# Altium footprint library Tarefinha.PcbLib: 11 footprints
Each footprint in its own frame and in the unit in brackets; x right, y up, seen from the top. Pads: shape width x height; smd on the part's side, far side on the other; paste and mask are expansions set on the pad; w line width, h text height; cw(c..) or ccw(c..) is an arc to the next point about the centre after c.
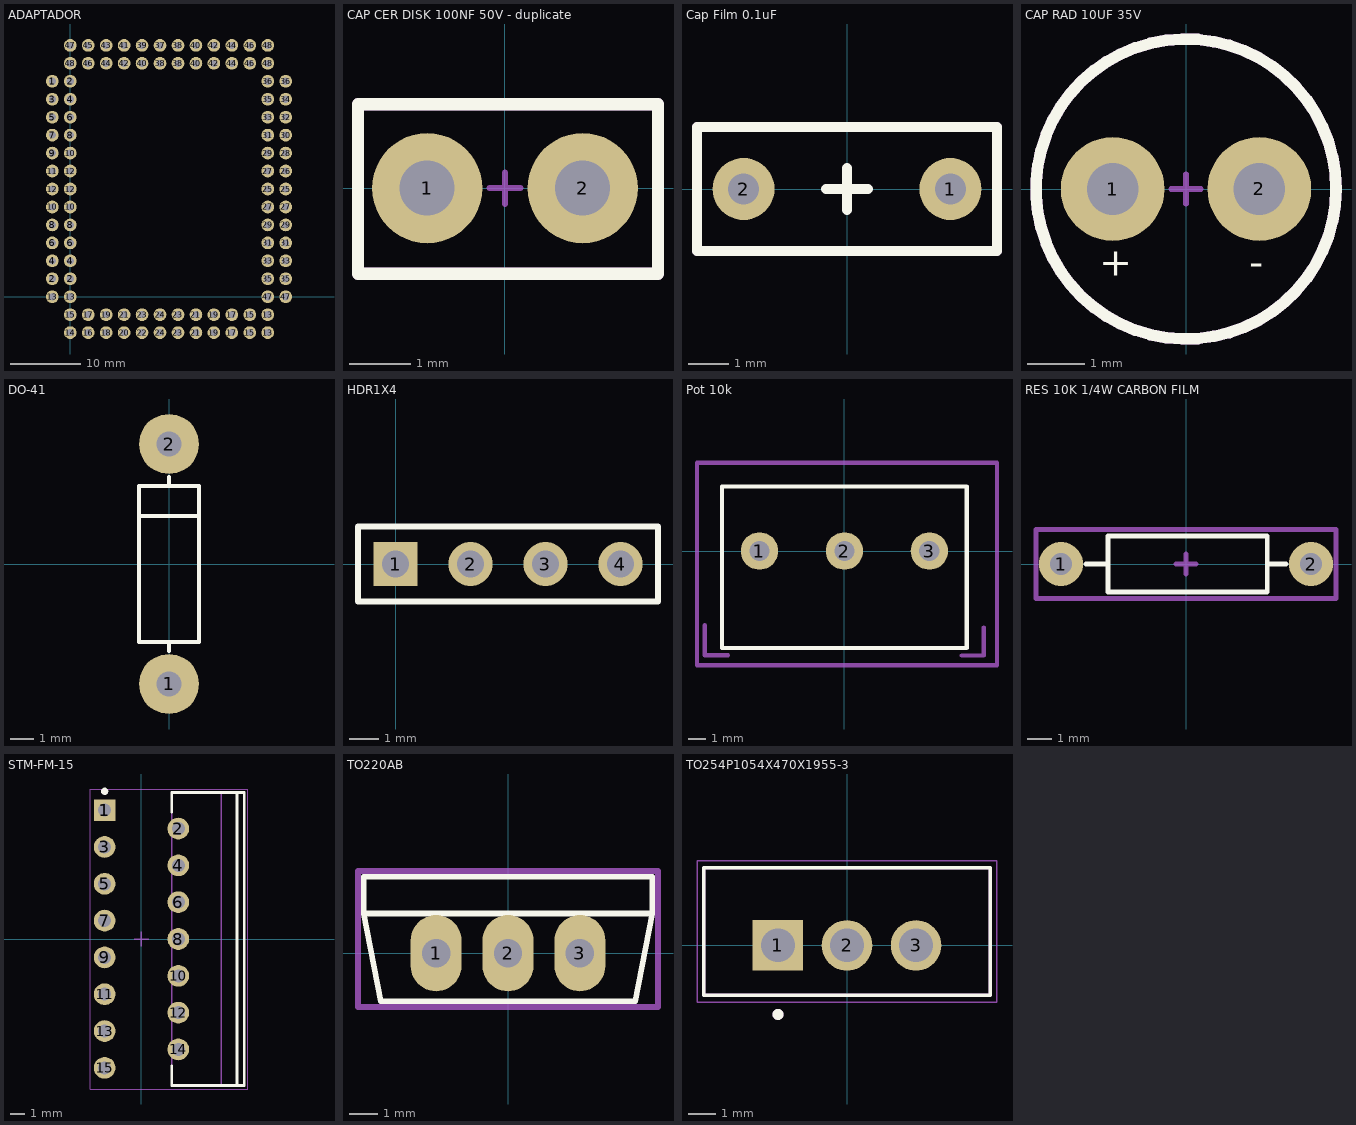
[diagram p0: the footprints below, top view; thin cyan lines are the x and y axes]

## ADAPTADOR [mm] "SMD"
pads (100):
  round 1.8 hole 1: 1(-2.54,30.48) 2(-2.54,2.54) 2(0,2.54) 2(0,30.48) 3(-2.54,27.94) 4(-2.54,5.08) 4(0,5.08) 4(0,27.94) 5(-2.54,25.4) 6(-2.54,7.62) 6(0,7.62) 6(0,25.4) 7(-2.54,22.86) 8(-2.54,10.16) 8(0,10.16) 8(0,22.86) 9(-2.54,20.32) 10(-2.54,12.7) 10(0,12.7) 10(0,20.32) 11(-2.54,17.78) 12(-2.54,15.24) 12(0,15.24) 12(0,17.78) 13(-2.54,0) 13(0,0) 13(27.94,-5.08) 13(27.94,-2.54) 14(0,-5.08) 15(0,-2.54) 15(25.4,-5.08) 15(25.4,-2.54) 16(2.54,-5.08) 17(2.54,-2.54) 17(22.86,-5.08) 17(22.86,-2.54) 18(5.08,-5.08) 19(5.08,-2.54) 19(20.32,-5.08) 19(20.32,-2.54) 20(7.62,-5.08) 21(7.62,-2.54) 21(17.78,-5.08) 21(17.78,-2.54) 22(10.16,-5.08) 23(10.16,-2.54) 23(15.24,-5.08) 23(15.24,-2.54) 24(12.7,-5.08) 24(12.7,-2.54) 25(27.94,15.24) 25(30.48,15.24) 26(30.48,17.78) 27(27.94,12.7) 27(27.94,17.78) 27(30.48,12.7) 28(30.48,20.32) 29(27.94,10.16) 29(27.94,20.32) 29(30.48,10.16) 30(30.48,22.86) 31(27.94,7.62) 31(27.94,22.86) 31(30.48,7.62) 32(30.48,25.4) 33(27.94,5.08) 33(27.94,25.4) 33(30.48,5.08) 34(30.48,27.94) 35(27.94,2.54) 35(27.94,27.94) 35(30.48,2.54) 36(27.94,30.48) 36(30.48,30.48) 37(12.7,35.56) 38(12.7,33.02) 38(15.24,33.02) 38(15.24,35.56) 39(10.16,35.56) 40(10.16,33.02) 40(17.78,33.02) 40(17.78,35.56) 41(7.62,35.56) 42(7.62,33.02) 42(20.32,33.02) 42(20.32,35.56) 43(5.08,35.56) 44(5.08,33.02) 44(22.86,33.02) 44(22.86,35.56) 45(2.54,35.56) 46(2.54,33.02) 46(25.4,33.02) 46(25.4,35.56) 47(0,35.56) 47(27.94,0) 47(30.48,0) 48(0,33.02) 48(27.94,33.02) 48(27.94,35.56)
3D body "adap.STEP": height 8.17, standoff -3.77, extent -4.239,-8.06 31.761,37.94

## CAP CER DISK 100NF 50V - duplicate [mm] "Connector; Header; 5 Position"
pads (2):
  round 1.8 hole 0.9: 1(-1.27,0) 2(1.27,0)
Top Overlay:
  lines w0.2: -2.4,-1.397 2.5,-1.397 2.5,1.37 -2.4,1.37 -2.4,-1.397
Mechanical 15:
  lines w0.1: -0.254,0 0.254,0 ; 0,-0.254 0,0.254
  lines w0.2: -2.4,-1.397 -2.4,1.37 2.5,1.37 2.5,-1.397 -2.4,-1.397
Mechanical 29:
  text "1" at -0.4,-1.1 h0.5
  text ".Designator" at -2.2,1.8 h0.5
3D body "CAP_Ceramic.STEP": height 6.1, standoff -3.93, extent -2.28,-1.25 2.42,1.25

## Cap Film 0.1uF [mil] "Cap Film 0.1uF"
height 255.91
pads (2):
  round 60 hole 30: 1(100,0) 2(-100,0)
Top Overlay:
  lines w10: 0,-20 0,20 ; -145,-60 -145,60 145,60 145,-60 -145,-60 ; -20,0 20,0 -20,0
Mechanical 15:
  lines w10: -145,-60 -145,60 145,60 145,-60 -145,-60
3D body "User Library-MKT_B32529.step": height 236.22, standoff -255.91, extent -143.7,-60 143.7,58.11

## CAP RAD 10UF 35V [mm]
pads (2):
  round 1.8 hole 0.9: 1(-1.27,0) 2(1.27,0)
Top Overlay:
  circle w0.2: c0,0 r2.6
  text "-" at 1.1,-1.5 h0.5
  text "+" at -1.5,-1.5 h0.5
Mechanical 15:
  circle w0.2: c0,0 r2.6
  lines w0.1: -0.254,0 0.254,0 ; 0,-0.254 0,0.254
Mechanical 29:
  text "-" at 1.1,-1.5 h0.5
  text "+" at -1.5,-1.5 h0.5
  text ".Designator" at -2.4,3 h0.5
3D body "CAP ELE PTH.STEP": height 12.2, standoff -1.7, extent -2.5,-2.5 2.5,2.5

## DO-41 [mil] "Diode, thru-hole"
height 106.3
pads (2):
  round 100 / inner round 0 / far side round 100 hole 42: 1(0,-200) 2(0,200)
Top Overlay:
  lines w6: -50,80 50,80 ; 0,-145 0,-130 ; 0,130 0,145 ; -50,-130 50,-130 50,130 -50,130 -50,-130
3D body "DIODE0_4-DEFAULT.STEP": height 100.5, standoff -100, extent -51,-215 50,215

## HDR1X4 [mm]
pads (4):
  rect 1.5x1.5 hole 0.9: 1(0,0)
  round 1.5 hole 0.9: 2(2.54,0) 3(5.08,0) 4(7.62,0)
Top Overlay:
  lines w0.2: -1.27,-1.27 -1.27,1.27 8.89,1.27 8.89,-1.27 -1.27,-1.27

## Pot 10k [mm]
pads (3):
  round 2.2 hole 1.2: 1(-5,0) 2(0,0) 3(5,0)
Top Overlay:
  lines w0.254: -7.2,-5.7 7.2,-5.7 7.2,3.8 -7.2,3.8 -7.2,-5.7
Mechanical 13:
  lines w0.254: -8.225,-4.375 -8.225,-6.125 -6.85,-6.125 ; 6.9,-6.15 8.2,-6.15 8.2,-4.5
Mechanical 15:
  lines w0.254: -8.675,-6.725 8.925,-6.725 8.975,-6.725 8.975,5.2 -8.675,5.2 -8.675,-6.725
3D body "Potentiometer10K.STEP": height 21.17, standoff -3.68, extent -8.145,-5.55 8.195,23.49

## RES 10K 1/4W CARBON FILM [mm]
pads (2):
  round 1.8 hole 0.9: 1(-5.08,0) 2(5.08,0)
Top Overlay:
  lines w0.2: -4.064,0 -3.175,0 ; 3.302,0 4.064,0 ; -3.175,-1.143 3.302,-1.143 3.302,1.143 -3.175,1.143 -3.175,-1.143
Mechanical 15:
  lines w0.2: -0.4,0 0.4,0 ; 0,-0.4 0,0.4 ; -6.096,-1.4 -6.096,1.4 6.096,1.4 6.096,-1.4 -6.096,-1.4
Mechanical 29:
  text ".Designator" at -5.9,1.8 h0.5
  text "1" at -3.937,-1.016 h0.5
3D body "RES 10K .25W CARBON FILM.STEP": height 3.27, standoff -1.27, extent -5.473,-1.27 5.474,1.27

## STM-FM-15 [mm] "FM, 15-Leads, Body 20.2x5mm, Pitch 1.27mm"
height 21
pads (15):
  rect 1.5x1.5 hole 0.9: 1(-2.54,8.89)
  round 1.5 hole 0.9: 2(2.54,7.62) 3(-2.54,6.35) 4(2.54,5.08) 5(-2.54,3.81) 6(2.54,2.54) 7(-2.54,1.27) 8(2.54,0) 9(-2.54,-1.27) 10(2.54,-2.54) 11(-2.54,-3.81) 12(2.54,-5.08) 13(-2.54,-6.35) 14(2.54,-7.62) 15(-2.54,-8.89)
Top Overlay:
  circle w0.25: c-2.54,10.19 r0.125
  lines w0.2: 2.09,-8.77 2.09,-10.1 7.09,-10.1 7.09,10.1 2.09,10.1 2.09,8.77 ; 6.59,-10.1 6.59,10.1
Mechanical 13:
  lines w0.1: 5.49,-10.1 5.49,10.1 ; 2.09,-10.1 7.09,-10.1 7.09,10.1 2.09,10.1 2.09,-10.1
Mechanical 15:
  lines w0.05: -3.54,-10.35 7.34,-10.35 7.34,10.35 -3.54,10.35 -3.54,-10.35
  lines w0.1: -0.5,0 0.5,0 ; 0,-0.5 0,0.5
3D body: height 21, standoff 20.08, extent 5.49,-9.8 7.09,9.8
3D body: height 18.57, standoff 18.2, extent 5.49,-9.8 7.09,-1.875
3D body: height 18.57, standoff 18.2, extent 5.49,1.875 7.09,9.8
3D body: height 18.2, standoff 17.83, extent 5.49,-9.8 7.09,-1.875
3D body: height 18.2, standoff 17.83, extent 5.49,1.875 7.09,9.8
3D body: height 18.92, standoff 18.57, extent 5.49,-9.8 7.09,-1.839
3D body: height 18.92, standoff 18.57, extent 5.49,1.839 7.09,9.8
3D body: height 17.84, standoff 17.48, extent 5.49,-9.8 7.09,-1.839
3D body: height 17.84, standoff 17.48, extent 5.49,1.839 7.09,9.8
3D body: height 19.25, standoff 18.92, extent 5.49,-9.8 7.09,-1.732
3D body: height 19.25, standoff 18.92, extent 5.49,1.732 7.09,9.8
3D body: height 17.49, standoff 17.16, extent 5.49,-9.8 7.09,-1.732
3D body: height 17.49, standoff 17.16, extent 5.49,1.732 7.09,9.8
3D body: height 19.53, standoff 19.24, extent 5.49,-9.8 7.09,-1.559
3D body: height 19.53, standoff 19.24, extent 5.49,1.559 7.09,9.8
3D body: height 17.16, standoff 16.87, extent 5.49,-9.8 7.09,-1.559
3D body: height 17.16, standoff 16.87, extent 5.49,1.559 7.09,9.8
3D body: height 19.76, standoff 19.53, extent 5.49,-9.8 7.09,-1.326
3D body: height 19.76, standoff 19.53, extent 5.49,1.326 7.09,9.8
3D body: height 16.88, standoff 16.64, extent 5.49,-9.8 7.09,-1.326
3D body: height 16.88, standoff 16.64, extent 5.49,1.326 7.09,9.8
3D body: height 19.94, standoff 19.76, extent 5.49,-9.8 7.09,-1.042
3D body: height 19.94, standoff 19.76, extent 5.49,1.042 7.09,9.8
3D body: height 16.65, standoff 16.47, extent 5.49,-9.8 7.09,-1.042
3D body: height 16.65, standoff 16.47, extent 5.49,1.042 7.09,9.8
3D body: height 20.04, standoff 19.93, extent 5.49,-9.8 7.09,-0.718
3D body: height 20.04, standoff 19.93, extent 5.49,0.718 7.09,9.8
3D body: height 16.47, standoff 16.36, extent 5.49,-9.8 7.09,-0.718
3D body: height 16.47, standoff 16.36, extent 5.49,0.718 7.09,9.8
3D body: height 20.08, standoff 20.04, extent 5.49,-9.8 7.09,-0.366
3D body: height 20.08, standoff 20.04, extent 5.49,0.366 7.09,9.8
3D body: height 16.37, standoff 16.33, extent 5.49,-9.8 7.09,-0.366
3D body: height 16.37, standoff 16.33, extent 5.49,0.366 7.09,9.8
3D body: height 16.33, standoff 14.1, extent 5.49,-9.8 7.09,9.8
3D body: height 14.1, standoff 2.79, extent 2.09,-10.1 7.09,10.1
3D body: height 0, standoff -1.6, extent -2.8,-9.245 -2.28,-8.535
3D body: height 2.79, standoff 1.66, extent 4.33,-9.39 4.85,-8.39
3D body: height 1.66, standoff 1.14, extent -2.8,-9.39 4.85,-8.39
3D body: height 1.14, standoff 0, extent -2.8,-9.39 -2.28,-8.39
3D body: height 0, standoff -1.6, extent 2.28,-7.975 2.8,-7.265
3D body: height 2.79, standoff 1.66, extent 4.33,-8.12 4.85,-7.12
3D body: height 1.66, standoff 1.14, extent 2.28,-8.12 4.85,-7.12
3D body: height 1.14, standoff 0, extent 2.28,-8.12 2.8,-7.12
3D body: height 0, standoff -1.6, extent -2.8,-6.705 -2.28,-5.995
3D body: height 2.79, standoff 1.66, extent 4.33,-6.85 4.85,-5.85
3D body: height 1.66, standoff 1.14, extent -2.8,-6.85 4.85,-5.85
3D body: height 1.14, standoff 0, extent -2.8,-6.85 -2.28,-5.85
3D body: height 0, standoff -1.6, extent 2.28,-5.435 2.8,-4.725
3D body: height 2.79, standoff 1.66, extent 4.33,-5.58 4.85,-4.58
3D body: height 1.66, standoff 1.14, extent 2.28,-5.58 4.85,-4.58
3D body: height 1.14, standoff 0, extent 2.28,-5.58 2.8,-4.58
3D body: height 0, standoff -1.6, extent -2.8,-4.165 -2.28,-3.455
3D body: height 2.79, standoff 1.66, extent 4.33,-4.31 4.85,-3.31
3D body: height 1.66, standoff 1.14, extent -2.8,-4.31 4.85,-3.31
3D body: height 1.14, standoff 0, extent -2.8,-4.31 -2.28,-3.31
3D body: height 0, standoff -1.6, extent 2.28,-2.895 2.8,-2.185
3D body: height 2.79, standoff 1.66, extent 4.33,-3.04 4.85,-2.04
3D body: height 1.66, standoff 1.14, extent 2.28,-3.04 4.85,-2.04
3D body: height 1.14, standoff 0, extent 2.28,-3.04 2.8,-2.04
3D body: height 0, standoff -1.6, extent -2.8,-1.625 -2.28,-0.915
3D body: height 2.79, standoff 1.66, extent 4.33,-1.77 4.85,-0.77
3D body: height 1.66, standoff 1.14, extent -2.8,-1.77 4.85,-0.77
3D body: height 1.14, standoff 0, extent -2.8,-1.77 -2.28,-0.77
3D body: height 0, standoff -1.6, extent 2.28,-0.355 2.8,0.355
3D body: height 2.79, standoff 1.66, extent 4.33,-0.5 4.85,0.5
3D body: height 1.66, standoff 1.14, extent 2.28,-0.5 4.85,0.5
3D body: height 1.14, standoff 0, extent 2.28,-0.5 2.8,0.5
3D body: height 0, standoff -1.6, extent -2.8,0.915 -2.28,1.625
3D body: height 2.79, standoff 1.66, extent 4.33,0.77 4.85,1.77
3D body: height 1.66, standoff 1.14, extent -2.8,0.77 4.85,1.77
3D body: height 1.14, standoff 0, extent -2.8,0.77 -2.28,1.77
3D body: height 0, standoff -1.6, extent 2.28,2.185 2.8,2.895
3D body: height 2.79, standoff 1.66, extent 4.33,2.04 4.85,3.04
3D body: height 1.66, standoff 1.14, extent 2.28,2.04 4.85,3.04
3D body: height 1.14, standoff 0, extent 2.28,2.04 2.8,3.04
3D body: height 0, standoff -1.6, extent -2.8,3.455 -2.28,4.165
3D body: height 2.79, standoff 1.66, extent 4.33,3.31 4.85,4.31
3D body: height 1.66, standoff 1.14, extent -2.8,3.31 4.85,4.31
3D body: height 1.14, standoff 0, extent -2.8,3.31 -2.28,4.31
3D body: height 0, standoff -1.6, extent 2.28,4.725 2.8,5.435
3D body: height 2.79, standoff 1.66, extent 4.33,4.58 4.85,5.58
3D body: height 1.66, standoff 1.14, extent 2.28,4.58 4.85,5.58
3D body: height 1.14, standoff 0, extent 2.28,4.58 2.8,5.58
3D body: height 0, standoff -1.6, extent -2.8,5.995 -2.28,6.705
3D body: height 2.79, standoff 1.66, extent 4.33,5.85 4.85,6.85
3D body: height 1.66, standoff 1.14, extent -2.8,5.85 4.85,6.85
3D body: height 1.14, standoff 0, extent -2.8,5.85 -2.28,6.85
3D body: height 0, standoff -1.6, extent 2.28,7.265 2.8,7.975
3D body: height 2.79, standoff 1.66, extent 4.33,7.12 4.85,8.12
3D body: height 1.66, standoff 1.14, extent 2.28,7.12 4.85,8.12
3D body: height 1.14, standoff 0, extent 2.28,7.12 2.8,8.12
3D body: height 0, standoff -1.6, extent -2.8,8.535 -2.28,9.245
3D body: height 2.79, standoff 1.66, extent 4.33,8.39 4.85,9.39
3D body: height 1.66, standoff 1.14, extent -2.8,8.39 4.85,9.39
3D body: height 1.14, standoff 0, extent -2.8,8.39 -2.28,9.39

## TO220AB [mm]
pads (3):
  oval 1.8x2.7 hole 1: 1(-2.54,0) 2(0,0) 3(2.54,0)
Top Overlay:
  lines w0.2: -5.1,1.4 -5.1,2.7 5.1,2.7 5.1,1.4 ; -5.1,1.4 5.1,1.4 ; -5.1,1.4 -4.5,-1.7 4.5,-1.7 5.1,1.4
Mechanical 15:
  lines w0.1: -0.2,0.5 0.2,0.5 ; 0,0.3 0,0.7
  lines w0.2: -5.3,-1.9 5.3,-1.9 5.3,2.9 -5.3,2.9 -5.3,-1.9
Mechanical 29:
  text ".Designator" at -5.1,3.3 h0.5
  text "1" at -3.9,-1.4 h0.5
3D body "TO220AB.STEP": height 19.34, standoff -1.98, extent -5.15,-1.778 5.15,2.732

## TO254P1054X470X1955-3 [mm]
pads (3):
  rect 1.86x1.86 hole 1.24: 1(-2.54,0)
  round 1.86 hole 1.24: 2(0,0) 3(2.54,0)
Top Overlay:
  circle w0.2: c-2.54,-2.54 r0.1
  lines w0.127: -5.27,-1.84 5.27,-1.84 5.27,2.86 -5.27,2.86 -5.27,-1.84
Mechanical 13:
  circle w0.2: c-2.54,-2.54 r0.1
  lines w0.127: -5.27,-1.84 5.27,-1.84 5.27,2.86 -5.27,2.86 -5.27,-1.84
Mechanical 15:
  lines w0.05: -5.52,-2.09 5.52,-2.09 5.52,3.11 -5.52,3.11 -5.52,-2.09